# Altium schematic symbol library Cap.SchLib: 2 symbols
Pins are listed as number, name and electrical type; pins without a type are passive.

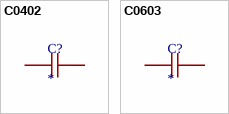
[diagram p0: symbols C0402 to C0603]

## C0402
designator C?
footprint C0402
pins: 2

## C0603
designator C?
footprint C0603
pins: 1, 2